# Altium footprint library Custom_PCB_library.PcbLib: 1 footprints
Each footprint in its own frame and in the unit in brackets; x right, y up, seen from the top. Pads: shape width x height; smd on the part's side, far side on the other; paste and mask are expansions set on the pad; w line width, h text height; cw(c..) or ccw(c..) is an arc to the next point about the centre after c.
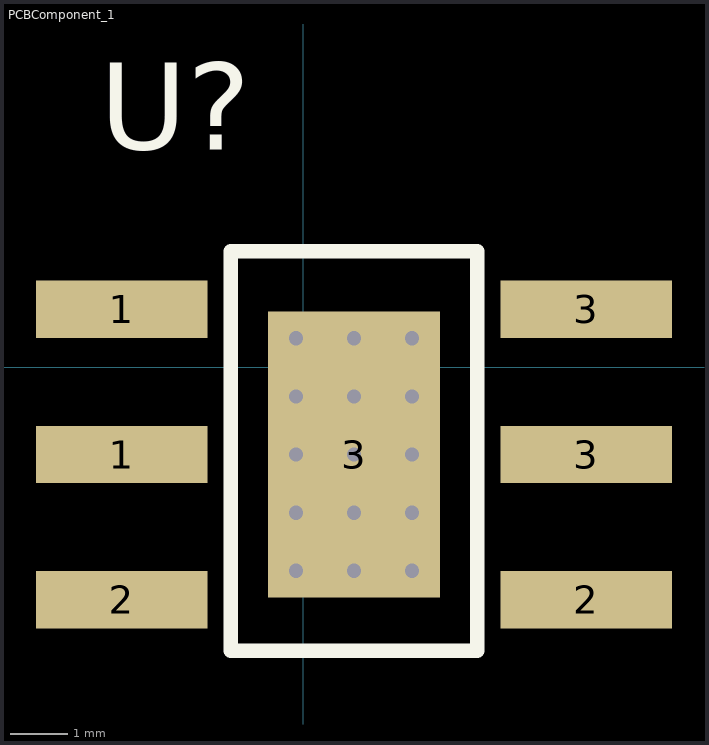
[diagram p0: the footprint, top view; thin cyan lines are the x and y axes]

## PCBComponent_1 [mm]
pads (7):
  rect 3x1 smd: 1(-3.175,-1.524) 1(-3.175,1.016) 2(-3.175,-4.064) 2(4.953,-4.064) 3(4.953,-1.524) 3(4.953,1.016)
  rect 3x5 smd: 3(0.889,-1.524)
via 0.889,-0.508 diameter 0.5 hole 0.25
via 0.889,-1.524 diameter 0.5 hole 0.25
via 0.889,-2.54 diameter 0.5 hole 0.25
via 0.889,-3.556 diameter 0.5 hole 0.25
via 1.905,-2.54 diameter 0.5 hole 0.25
via 1.905,-0.508 diameter 0.5 hole 0.25
via 1.905,-1.524 diameter 0.5 hole 0.25
via 1.905,-3.556 diameter 0.5 hole 0.25
via -0.127,-0.508 diameter 0.5 hole 0.25
via -0.127,-2.54 diameter 0.5 hole 0.25
via -0.127,-1.524 diameter 0.5 hole 0.25
via -0.127,-3.556 diameter 0.5 hole 0.25
via 0.889,0.508 diameter 0.5 hole 0.25
via 1.905,0.508 diameter 0.5 hole 0.25
via -0.127,0.508 diameter 0.5 hole 0.25
Top Overlay:
  lines w0.254: -1.27,-4.953 3.048,-4.953 3.048,2.032 -1.27,2.032 -1.27,-4.953
  text "U?" at -3.556,3.81 h1.52